# Altium schematic symbol library Wheelchair.SCHLIB: 11 symbols
Pins are listed as number, name and electrical type; pins without a type are passive.

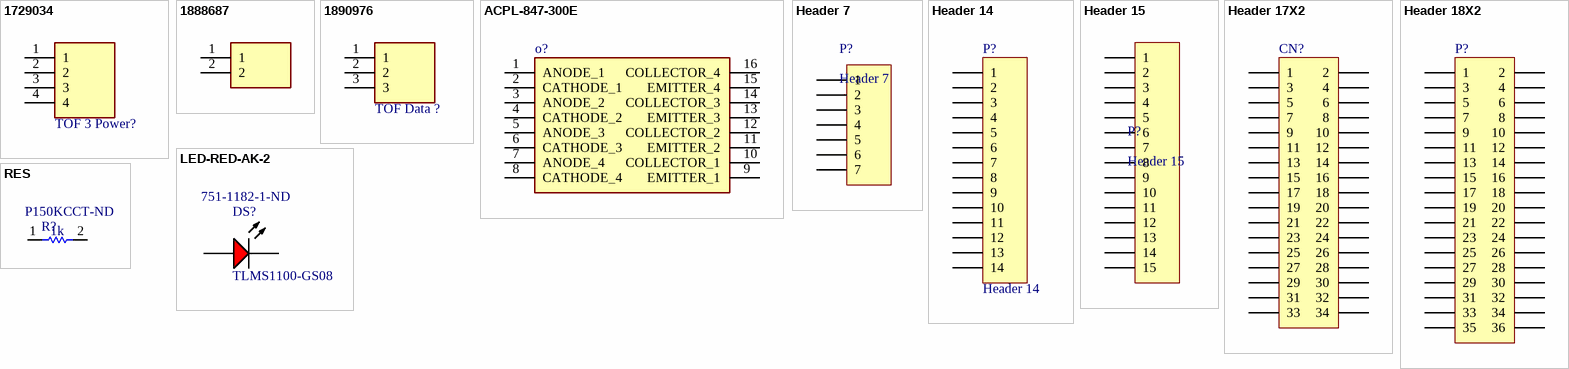
[diagram p0: symbols 1729034 to RES]

## 1729034
designator TOF 3 Power?  (value not drawn)
Connector; Manufacturer_Name: Phoenix Contact; Allied_Number: 70054377; Datasheet Link: https://www.phoenixcontact.com/online/portal/gb/?uri=pxc-oc-itemdetail:pid=1729034&library=gben&pcck=P-11-01-05&tab=1&selectedCategory=ALL; Height: 10mm; Manufacturer_Part_Number: 1729034; Mouser Part Number: 651-1729034; Mouser Price/Stock: https://www.mouser.com/Search/Refine.aspx?Keyword=651-1729034; RS Part Number: 8020620; RS Price/Stock: http://uk.rs-online.com/web/p/products/8020620; Allied Price/Stock: https://www.alliedelec.com/phoenix-contact-1729034/70054377/
footprint SHDR4W110P0X500_1X4_2000X810X1000P
pins: 1, 2, 3, 4

## 1888687
designator Joystick?  (value not drawn)
Connector; Manufacturer_Name: Phoenix Contact; Allied_Number: 70054422; Datasheet Link: https://componentsearchengine.com/Datasheets/1/1888687.pdf; Height: 15mm; Manufacturer_Part_Number: 1888687; Mouser Part Number: 651-1888687; Mouser Price/Stock: https://www.mouser.com/Search/Refine.aspx?Keyword=651-1888687; RS Part Number: 8045095; RS Price/Stock: http://uk.rs-online.com/web/p/products/8045095; Allied Price/Stock: https://www.alliedelec.com/phoenixcontact-1888687/70054422/
footprint SHDR2W90P0X508_1X2_1016X950X1500P
pins: 1, 2

## 1890976
designator TOF Data ?  (value not drawn)
Connector; Manufacturer_Name: Phoenix Contact; Allied_Number: 70054392; Datasheet Link: https://www.phoenixcontact.com/online/portal/gb/pxc/product_detail_page/!ut/p/z1/5Vdbc6IwFP4rvvi2MSGA4KOXqtXW6a7WCi9MAsFJy02kUvvrN0GdVXeK3XHcF5gzQy7nO8l3ksPwQRsuoB2RDV-SjMcRCUTfspsOHihIGWrKI5pjHbXno1Hnbjwc9n8hOIc2tNcsYG7GvC7J2DJOt9BqPzzIiYxQaCmylbjuG7SegK; Height: 15mm; Manufacturer_Part_Number: 1890976; Mouser Part Number: 651-1890976; Mouser Price/Stock: https://www.mouser.com/Search/Refine.aspx?Keyword=651-1890976; RS Part Number: 8045111; RS Price/Stock: http://uk.rs-online.com/web/p/products/8045111; Allied Price/Stock: https://www.alliedelec.com/phoenix-contact-1890976/70054392/
footprint SHDR3W110P0X500_1X3_1500X950X1500P
pins: 1, 2, 3

## ACPL-847-300E
designator o?  (value not drawn)
Diode; Manufacturer_Name: Avago Technologies; Datasheet Link: https://docs.broadcom.com/docs/AV02-1429EN; Height: 4.6mm; Manufacturer_Part_Number: ACPL-847-300E; Mouser Part Number: 630-ACPL-847-300E; Mouser Price/Stock: https://www.mouser.com/Search/Refine.aspx?Keyword=630-ACPL-847-300E; RS Part Number: 6935959P; RS Price/Stock: http://uk.rs-online.com/web/p/products/6935959P
footprint SOP254P1016X460-16N
pins: 1 ANODE_1, 2 CATHODE_1, 3 ANODE_2, 4 CATHODE_2, 5 ANODE_3, 6 CATHODE_3, 7 ANODE_4, 8 CATHODE_4, 9 EMITTER_1, 10 COLLECTOR_1, 11 EMITTER_2, 12 COLLECTOR_2, 13 EMITTER_3, 14 COLLECTOR_3, 15 EMITTER_4, 16 COLLECTOR_4

## Header 7
designator P?
Header, 7-Pin
footprint HDR1X7
pins: 1, 2, 3, 4, 5, 6, 7

## Header 14
designator P?
Header, 14-Pin; LatestRevisionDate: 17-Jul-2002; LatestRevisionNote: Re-released for DXP Platform.; Publisher: Altium Limited
footprint HDR1X14 (Connector; Header; 14 Position)
signal-integrity model Connector
pins: 1, 2, 3, 4, 5, 6, 7, 8, 9, 10, 11, 12, 13, 14

## Header 15
designator P?
Header, 15-Pin
footprint HDR1X15
pins: 1, 2, 3, 4, 5, 6, 7, 8, 9, 10, 11, 12, 13, 14, 15

## Header 17X2
designator CN?  (value not drawn)
Header, 17-Pin, Dual row; LatestRevisionDate: 17-Jul-2002; LatestRevisionNote: Re-released for DXP Platform.; Publisher: Altium Limited
footprint HDR2X17 (Connector; Header; 17x2 Position)
signal-integrity model Connector
pins: 1, 2, 3, 4, 5, 6, 7, 8, 9, 10, 11, 12, 13, 14, 15, 16, 17, 18, 19, 20, 21, 22, 23, 24, 25, 26, 27, 28, 29, 30, 31, 32, 33, 34

## Header 18X2
designator P?  (value not drawn)
Header, 18-Pin, Dual row; LatestRevisionDate: 17-Jul-2002; LatestRevisionNote: Re-released for DXP Platform.; Publisher: Altium Limited
footprint HDR2X18 (Connector; Header; 18x2 Position)
signal-integrity model Connector
pins: 1, 2, 3, 4, 5, 6, 7, 8, 9, 10, 11, 12, 13, 14, 15, 16, 17, 18, 19, 20, 21, 22, 23, 24, 25, 26, 27, 28, 29, 30, 31, 32, 33, 34, 35, 36

## LED-RED-AK-2
designator DS?, comment TLMS1100-GS08  Supplier Part Number 1: 751-1182-1-ND
LED, RED, 2.1 V, -40 to 100 degC, 2-Pin SMD (0603), RoHS, Tape and Reel; Manufacturer 1: Vishay Semiconductors; Type (Capacitors): C0G; Resistance: 100000000000 Ohm; Capacitance: 12 pF; Voltage Rating: 50 V; Tolerance: 5%; Viewing Angle: 160°; Luminous Intensity: 63mcd; Forward Voltage: 2.1V; Wavelength: 639nm; Dominant Wavelength: 633nm; Test Current: 20mA; Lens Style: Rectangular,Diffused; Power Dissipation: 90mW; Number of LEDs: 1; Min Operating Temperature: -55degC; REACH SVHC: No SVHC; ComponentLink2Description: Datasheet; ComponentLink1URL: http://www.vishay.com/; Width: 0.8 mm; Package Quantity: 4000; PackageReference: TLMX1100; ComponentLink2URL: http://www.vishay.com/docs/83173/tlmb1100.pdf; Case/Package: 0603; Case Code (Metric): 1608; Packaging: Tape and Reel; Pins: 2; ComponentLink1Description: Manufacturer URL; Max Operating Temperature: 125degC; Height: 0.8 mm; Length: 1.6 mm; Mount: Surface Mount; PackageDescription: 2-Pin Surface Mount Device, Body 1.6 x 0.8 mm; DatasheetVersion: Rev. 2.7, 03/2016; Case Code (Imperial): 0603; Voltage Rating (DC): 50 V; RoHSCompliant: True; Radiation Hardening: No; Supplier 1: Digi-Key; Manufacturer Part Number 1: TLMS1100-GS08; Stock 1: 38187; Pricing 1: 1=0.49000, 10=0.35600, 100=0.23220, 500=0.16688, 1000=0.13061 (USD); RoHS: Yes; Number of Pins: 2; Color: Red; Lens Color: Red; Forward Current: 20mA; Power Rating: 90mW; Lead Free: Lead Free; ComponentLink3URL: http://www.mouser.com/ds/2/427/tlmb1100-279843.pdf?src-supplier=Mouser; ComponentLink3Description: http://www.mouser.com/ds/2/427/tlmb1100-279843.pdf?src-supplier=Mouser; ComponentLink4URL: http://www.farnell.com/datasheets/2049164.pdf?src-supplier=Farnell; ComponentLink4Description: http://www.farnell.com/datasheets/2049164.pdf?src-supplier=Farnell; ComponentLink5URL: http://www.farnell.com/datasheets/2243650.pdf?src-supplier=Farnell; ComponentLink5Description: http://www.farnell.com/datasheets/2243650.pdf?src-supplier=Farnell; ComponentLink6URL: http://www.farnell.com/datasheets/1698308.pdf?src-supplier=Element14; ComponentLink6Description: http://www.farnell.com/datasheets/1698308.pdf?src-supplier=Element14; ComponentLink7URL: http://www.vishay.com/docs/83173/tlmb1100.pdf?src-supplier=Digi-Key; ComponentLink7Description: http://www.vishay.com/docs/83173/tlmb1100.pdf?src-supplier=Digi-Key; ComponentLink8URL: http://www.farnell.com/datasheets/485053.pdf?src-supplier=Element14; ComponentLink8Description: http://www.farnell.com/datasheets/485053.pdf?src-supplier=Element14
footprint VISH-TLMX1100_V (SMD, 2-Leads, Body 1.6x0.8mm)
pins: 1 A, 2 K

## RES
designator R?, comment 1k  Supplier Part Number 1: P150KCCT-ND
RES SMD 150K OHM 1% 1/8W 0805; Manufacturer: Panasonic; Part Number: ERJ-6ENF1503V; Resistance: 150kR; Temperature Coefficient: 100ppm/°C; Power Rating: 125mW; Voltage Rating: 150V; Datasheet: http://industrial.panasonic.com/cdbs/www-data/pdf/RDA0000/AOA0000C86.pdf; Supplier 1: Digi-Key; Manufacturer 1: Panasonic; Manufacturer Part Number 1: ERJ-6ENF1503V; Stock 1: 81287; Pricing 1: 1=0.10000, 10=0.07200, 100=0.02750, 1000=0.01210, 2500=0.01045 (USD); RoHS: Yes; Mount: Surface Mount; Case/Package: 0805; Number of Pins: 2; Contact Plating: Tin; Case Code (Metric): 2012; Case Code (Imperial): 0805; Min Operating Temperature: -55°C; Max Operating Temperature: 155°C; Tolerance: 1%; Composition: Thick Film; Packaging: Tape and Reel; Package Quantity: 1; Number of Terminations: 2; Military Standard: Not; Termination: SMD/SMT; Max Power Dissipation: 125mW; Voltage Rating (DC): 150V; Features: Automotive AEC-Q200; Length: 2mm; Height: 0.6mm; Width: 0.049inch; Depth: 1.25mm; Radiation Hardening: No; REACH SVHC: No SVHC; Lead Free: Lead Free; ComponentLink1URL: https://datasheet.ciiva.com/11821/0900766b80f80784-11821521.pdf?src-supplier=RSComponents; ComponentLink1Description: https://datasheet.ciiva.com/11821/0900766b80f80784-11821521.pdf?src-supplier=RSComponents; ComponentLink2URL: https://datasheet.ciiva.com/34303/1989084-34303621.pdf?src-supplier=Jameco; ComponentLink2Description: https://datasheet.ciiva.com/34303/1989084-34303621.pdf?src-supplier=Jameco; ComponentLink3URL: https://datasheet.ciiva.com/30206/aoa0000ce2-30206602.pdf?src-supplier=Onlinecomponents.com; ComponentLink3Description: https://datasheet.ciiva.com/30206/aoa0000ce2-30206602.pdf?src-supplier=Onlinecomponents.com; ComponentLink4URL: https://datasheet.ciiva.com/7909/426256-7909230.pdf?src-supplier=Element14; ComponentLink4Description: https://datasheet.ciiva.com/7909/426256-7909230.pdf?src-supplier=Element14; ComponentLink5URL: https://datasheet.ciiva.com/9185/aoa0000ce2-9185518.pdf?src-supplier=Avnet; ComponentLink5Description: https://datasheet.ciiva.com/9185/aoa0000ce2-9185518.pdf?src-supplier=Avnet; ComponentLink6URL: https://datasheet.ciiva.com/16758/70260748-16758950.pdf?src-supplier=Allied+Electronics; ComponentLink6Description: https://datasheet.ciiva.com/16758/70260748-16758950.pdf?src-supplier=Allied+Electronics; ComponentLink7URL: https://datasheet.ciiva.com/28547/1678782-28547238.pdf?src-supplier=Element14; ComponentLink7Description: https://datasheet.ciiva.com/28547/1678782-28547238.pdf?src-supplier=Element14; ComponentLink8URL: https://datasheet.ciiva.com/16516/aoa0000ce2-16516407.pdf?src-supplier=Avnet+Asia; ComponentLink8Description: https://datasheet.ciiva.com/16516/aoa0000ce2-16516407.pdf?src-supplier=Avnet+Asia; ComponentLink9URL: https://datasheet.ciiva.com/17207/aoa0000ce2-17207479.pdf?src-supplier=Avnet+Europe; ComponentLink9Description: https://datasheet.ciiva.com/17207/aoa0000ce2-17207479.pdf?src-supplier=Avnet+Europe; ComponentLink10URL: https://datasheet.ciiva.com/6137/426256-6137577.pdf?src-supplier=Farnell; ComponentLink10Description: https://datasheet.ciiva.com/6137/426256-6137577.pdf?src-supplier=Farnell; ComponentLink11URL: https://datasheet.ciiva.com/16774/70260748-16774137.pdf?src-supplier=Allied+Electronics; ComponentLink11Description: https://datasheet.ciiva.com/16774/70260748-16774137.pdf?src-supplier=Allied+Electronics; ComponentLink12URL: https://datasheet.ciiva.com/46420/1678782-46420185.pdf?src-supplier=Element14; ComponentLink12Description: https://datasheet.ciiva.com/46420/1678782-46420185.pdf?src-supplier=Element14; ComponentLink13URL: https://datasheet.ciiva.com/22673/1678782-22673290.pdf?src-supplier=Element14; ComponentLink13Description: https://datasheet.ciiva.com/22673/1678782-22673290.pdf?src-supplier=Element14; ComponentLink14URL: https://datasheet.ciiva.com/7909/426256-7909550.pdf?src-supplier=Element14; ComponentLink14Description: https://datasheet.ciiva.com/7909/426256-7909550.pdf?src-supplier=Element14
footprint RESC2013X70X40LL20T20 (Chip Resistor, 2-Leads, Body 2.00x1.25mm, IPC High Density)
footprint RESC2013X70X40NL20T20 (Chip Resistor, 2-Leads, Body 2.00x1.25mm, IPC Medium Density)
footprint RESC2013X70X40ML20T20 (Chip Resistor, 2-Leads, Body 2.00x1.25mm, IPC Low Density)
pins: 1, 2
1 alternate drawing of the same symbol